# Altium integrated library Transistor.IntLib: 3457 symbols (part 56 of 78)
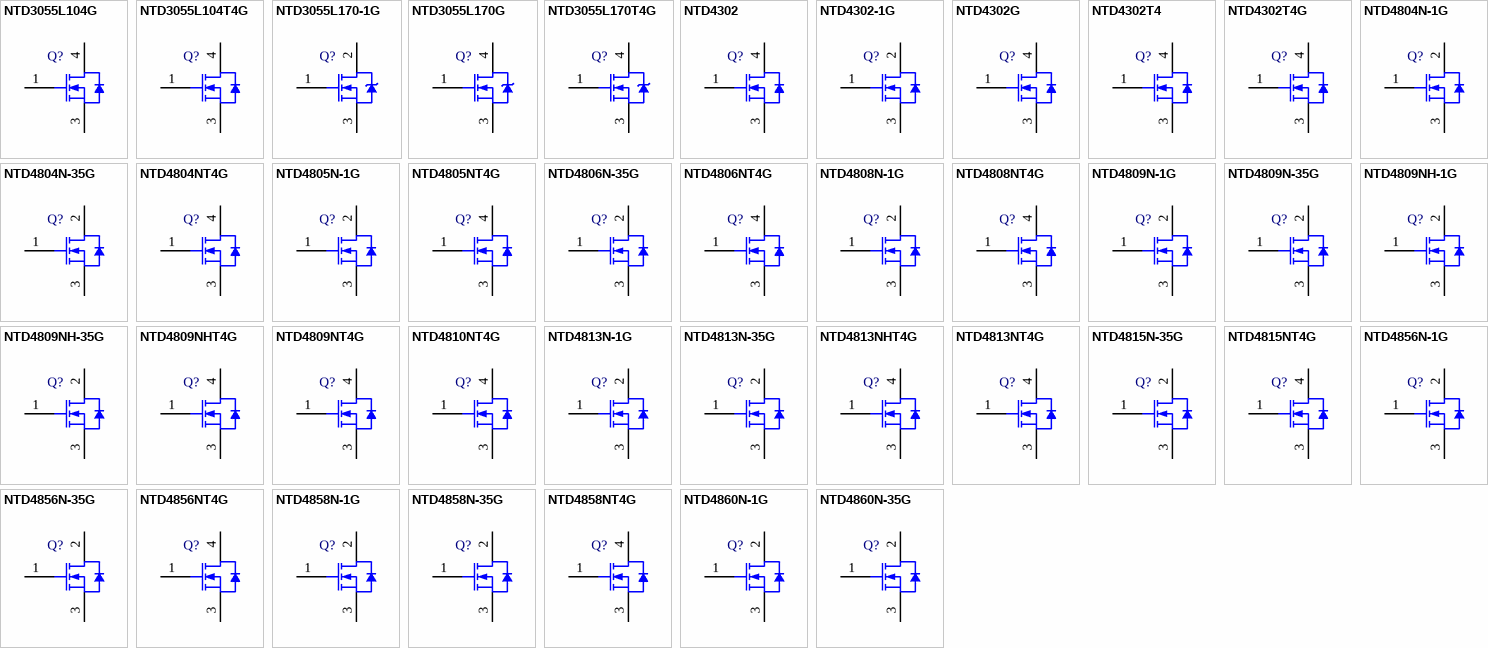
[diagram p149: symbols NTD3055L104G to NTD4860N-35G]

## NTD4804N-35G
designator Q?
Power MOSFET, 30 V, 117 A, Single N-Channel, 3-Pin IPAK, Pb-Free, Tube; Manufacturer: On Semiconductor; PartNumber: NTD4804N-35G; Channel Polarity: N Channel; Ciss Typ (pF): 4490; Coss Typ (pF): 952; Crss Typ (pF): 556; ID Max (A): 117; Qrr Typ (nC): 30; VGS Max (V): 20; VGS(th) Max (V): 2.5; DatasheetVersion: Rev. 8; PackageVersion: Rev. B, 04/2013; PackageReference: IPAK-3-369AD; PackageDescription: 3-Pin Flange Mount, Vertical Straight Lead, Body 6.54 x 2.285 mm, Pitch 2.28 mm; Configuration: Single; Package Type: DPAK-3; Packing: Tube; RoHS: Pb-Free; V(BR)DSS Min (V): 30; Mounting Technology: Through Hole; ComponentLink1Description: Manufacturer URL; ComponentLink1URL: http://www.onsemi.com/; ComponentLink2Description: Datasheet; ComponentLink2URL: http://www.onsemi.cn/pub_link/Collateral/NTD4804N-D.PDF; ComponentLink3Description: Package Specification; ComponentLink3URL: http://www.onsemi.cn/pub_link/Collateral/369AD.PDF
footprint ONSC-IPAK-3-369AD (FM, 3-Leads, Body 6.75x2.4mm, Pitch 2.28mm)
pins: 1 G, 2 D, 3 S

## NTD4804NT4G
designator Q?
Power MOSFET, 30 V, 117 A, Single N-Channel, 3-Pin DPAK, Pb-Free, Tape and Reel; Manufacturer: On Semiconductor; PartNumber: NTD4804NT4G; Channel Polarity: N Channel; Ciss Typ (pF): 4490; Coss Typ (pF): 952; Crss Typ (pF): 556; ID Max (A): 117; Qrr Typ (nC): 30; VGS Max (V): 20; VGS(th) Max (V): 2.5; DatasheetVersion: Rev. 8; PackageVersion: Rev. B, 06/2010; PackageReference: DPAK-3-369AA-01; PackageDescription: 3-Pin Flange Mount, Body 6.54 x 6.095 mm, Pitch 2.29 mm; Configuration: Single; Package Type: DPAK-3; Packing: Tape and Reel; RoHS: Pb-Free; V(BR)DSS Min (V): 30; Mounting Technology: Surface Mount; ComponentLink1Description: Manufacturer URL; ComponentLink1URL: http://www.onsemi.com/; ComponentLink2Description: Datasheet; ComponentLink2URL: http://www.onsemi.cn/pub_link/Collateral/NTD4804N-D.PDF; ComponentLink3Description: Package Specification; ComponentLink3URL: http://www.onsemi.cn/pub_link/Collateral/369AA.PDF
footprint ONSC-DPAK-3-369AA-01_V (DPAK, 3-Leads, Body 6.54x6.095mm, Pitch 2.29mm)
pins: 1 G, 3 S, 4 D

## NTD4805N-1G
designator Q?
Power MOSFET, 30 V, 88 A, Single N-Channel, 3-Pin IPAK, Pb-Free, Tube; Manufacturer: On Semiconductor; PartNumber: NTD4805N-1G; Channel Polarity: N Channel; Ciss Typ (pF): 2865; Coss Typ (pF): 610; Crss Typ (pF): 338; ID Max (A): 88; Qrr Typ (nC): 18; V(BR)DSS Min (V): 30; VGS Max (V): 20; VGS(th) Max (V): 2.5; DatasheetVersion: Rev. 7; PackageVersion: Rev. C, 12/2010; PackageReference: IPAK-3-369D-01; PackageDescription: 3-Pin Flange Mount, Vertical Straight Lead, Body 6.54 x 2.285 mm, Pitch 2.29 mm; Configuration: Single; Package Type: DPAK-3, IPAK-4; Packing: Tube; RoHS: Pb-Free; Mounting Technology: Through Hole; Code_JEDEC: TO-251; ComponentLink1Description: Manufacturer URL; ComponentLink1URL: http://www.onsemi.com/; ComponentLink2Description: Datasheet; ComponentLink2URL: http://www.onsemi.cn/pub_link/Collateral/NTD4805N-D.PDF; ComponentLink3Description: Package Specification; ComponentLink3URL: http://www.onsemi.cn/pub_link/Collateral/369D.PDF
footprint ONSC-IPAK-3-369D-01 (FM, 3-Leads, Body 6.75x2.4mm, Pitch 2.29mm)
pins: 1 G, 2 D, 3 S

## NTD4805NT4G
designator Q?
Power MOSFET, 30 V, 88 A, Single N-Channel, 3-Pin DPAK, Pb-Free, Tape and Reel; Manufacturer: On Semiconductor; PartNumber: NTD4805NT4G; Channel Polarity: N Channel; Ciss Typ (pF): 2865; Coss Typ (pF): 610; Crss Typ (pF): 338; ID Max (A): 88; Qrr Typ (nC): 18; V(BR)DSS Min (V): 30; VGS Max (V): 20; VGS(th) Max (V): 2.5; DatasheetVersion: Rev. 7; PackageVersion: Rev. B, 06/2010; PackageReference: DPAK-3-369AA-01; PackageDescription: 3-Pin Flange Mount, Body 6.54 x 6.095 mm, Pitch 2.29 mm; Configuration: Single; Package Type: DPAK-3, IPAK-4; Packing: Tape and Reel; RoHS: Pb-Free; Mounting Technology: Surface Mount; ComponentLink1Description: Manufacturer URL; ComponentLink1URL: http://www.onsemi.com/; ComponentLink2Description: Datasheet; ComponentLink2URL: http://www.onsemi.cn/pub_link/Collateral/NTD4805N-D.PDF; ComponentLink3Description: Package Specification; ComponentLink3URL: http://www.onsemi.cn/pub_link/Collateral/369AA.PDF
footprint ONSC-DPAK-3-369AA-01_V (DPAK, 3-Leads, Body 6.54x6.095mm, Pitch 2.29mm)
pins: 1 G, 3 S, 4 D

## NTD4806N-35G
designator Q?
Power MOSFET, 30 V, 76 A, Single N-Channel, 3-Pin IPAK, Pb-Free, Tube; Manufacturer: On Semiconductor; PartNumber: NTD4806N-35G; Channel Polarity: N Channel; Ciss Typ (pF): 2142; Coss Typ (pF): 480; Crss Typ (pF): 251; ID Max (A): 76; Qrr Typ (nC): 16; V(BR)DSS Min (V): 30; VGS Max (V): 20; VGS(th) Max (V): 2.5; DatasheetVersion: Rev. 9; PackageVersion: Rev. B, 04/2013; PackageReference: IPAK-3-369AD; PackageDescription: 3-Pin Flange Mount, Vertical Straight Lead, Body 6.54 x 2.285 mm, Pitch 2.28 mm; Configuration: Single; Package Type: DPAK-3, IPAK-3; Packing: Tube; RoHS: Pb-Free; Mounting Technology: Through Hole; ComponentLink1Description: Manufacturer URL; ComponentLink1URL: http://www.onsemi.com/; ComponentLink2Description: Datasheet; ComponentLink2URL: http://www.onsemi.cn/pub_link/Collateral/NTD4806N-D.PDF; ComponentLink3Description: Package Specification; ComponentLink3URL: http://www.onsemi.cn/pub_link/Collateral/369AD.PDF
footprint ONSC-IPAK-3-369AD (FM, 3-Leads, Body 6.75x2.4mm, Pitch 2.28mm)
pins: 1 G, 2 D, 3 S

## NTD4806NT4G
designator Q?
Power MOSFET, 30 V, 76 A, Single N-Channel, 3-Pin DPAK, Pb-Free, Tape and Reel; Manufacturer: On Semiconductor; PartNumber: NTD4806NT4G; Channel Polarity: N Channel; Ciss Typ (pF): 2142; Coss Typ (pF): 480; Crss Typ (pF): 251; ID Max (A): 76; Qrr Typ (nC): 16; V(BR)DSS Min (V): 30; VGS Max (V): 20; VGS(th) Max (V): 2.5; DatasheetVersion: Rev. 9; PackageVersion: Rev. B, 06/2010; PackageReference: DPAK-3-369AA-01; PackageDescription: 3-Pin Flange Mount, Body 6.54 x 6.095 mm, Pitch 2.29 mm; Configuration: Single; Package Type: DPAK-3, IPAK-3; Packing: Tape and Reel; RoHS: Pb-Free; Mounting Technology: Surface Mount; ComponentLink1Description: Manufacturer URL; ComponentLink1URL: http://www.onsemi.com/; ComponentLink2Description: Datasheet; ComponentLink2URL: http://www.onsemi.cn/pub_link/Collateral/NTD4806N-D.PDF; ComponentLink3Description: Package Specification; ComponentLink3URL: http://www.onsemi.cn/pub_link/Collateral/369AA.PDF
footprint ONSC-DPAK-3-369AA-01_V (DPAK, 3-Leads, Body 6.54x6.095mm, Pitch 2.29mm)
pins: 1 G, 3 S, 4 D

## NTD4808N-1G
designator Q?
Power MOSFET, 30 V, 63 A, Single N-Channel, 3-Pin IPAK, Pb-Free, Tube; Manufacturer: On Semiconductor; PartNumber: NTD4808N-1G; Channel Polarity: N Channel; Ciss Typ (pF): 1538; Coss Typ (pF): 334; Crss Typ (pF): 180; ID Max (A): 63; Qrr Typ (nC): 9.7; V(BR)DSS Min (V): 30; VGS Max (V): 20; VGS(th) Max (V): 2.5; DatasheetVersion: Rev. 7; PackageVersion: Rev. C, 12/2010; PackageReference: IPAK-3-369D-01; PackageDescription: 3-Pin Flange Mount, Vertical Straight Lead, Body 6.54 x 2.285 mm, Pitch 2.29 mm; Configuration: Single; Package Type: DPAK-3, IPAK-4; Packing: Tube; RoHS: Pb-Free; Mounting Technology: Through Hole; Code_JEDEC: TO-251; ComponentLink1Description: Manufacturer URL; ComponentLink1URL: http://www.onsemi.com/; ComponentLink2Description: Datasheet; ComponentLink2URL: http://www.onsemi.cn/pub_link/Collateral/NTD4808N-D.PDF; ComponentLink3Description: Package Specification; ComponentLink3URL: http://www.onsemi.com/pub_link/Collateral/369D.PDF
footprint ONSC-IPAK-3-369D-01 (FM, 3-Leads, Body 6.75x2.4mm, Pitch 2.29mm)
pins: 1 G, 2 D, 3 S

## NTD4808NT4G
designator Q?
Power MOSFET, 30 V, 63 A, Single N-Channel, 3-Pin DPAK, Pb-Free, Tape and Reel; Manufacturer: On Semiconductor; PartNumber: NTD4808NT4G; Channel Polarity: N Channel; Ciss Typ (pF): 1538; Coss Typ (pF): 334; Crss Typ (pF): 180; ID Max (A): 63; Qrr Typ (nC): 9.7; V(BR)DSS Min (V): 30; VGS Max (V): 20; VGS(th) Max (V): 2.5; DatasheetVersion: Rev. 7; PackageVersion: Rev. B, 06/2010; PackageReference: DPAK-3-369AA-01; PackageDescription: 3-Pin Flange Mount, Body 6.54 x 6.095 mm, Pitch 2.29 mm; Configuration: Single; Package Type: DPAK-3, IPAK-4; Packing: Tape and Reel; RoHS: Pb-Free; Mounting Technology: Surface Mount; ComponentLink1Description: Manufacturer URL; ComponentLink1URL: http://www.onsemi.com/; ComponentLink2Description: Datasheet; ComponentLink2URL: http://www.onsemi.cn/pub_link/Collateral/NTD4808N-D.PDF; ComponentLink3Description: Package Specification; ComponentLink3URL: http://www.onsemi.cn/pub_link/Collateral/369AA.PDF
footprint ONSC-DPAK-3-369AA-01_V (DPAK, 3-Leads, Body 6.54x6.095mm, Pitch 2.29mm)
pins: 1 G, 3 S, 4 D

## NTD4809N-1G
designator Q?
Power MOSFET, 30 V, 58 A, Single N-Channel, 3-Pin IPAK, Pb-Free, Tube; Manufacturer: On Semiconductor; PartNumber: NTD4809N-1G; Channel Polarity: N Channel; Ciss Typ (pF): 1456; Coss Typ (pF): 315; Crss Typ (pF): 200; ID Max (A): 58; Qrr Typ (nC): 9.2; V(BR)DSS Min (V): 30; VGS Max (V): 20; VGS(th) Max (V): 2.5; DatasheetVersion: Rev. 13; PackageVersion: Rev. C, 12/2010; PackageReference: IPAK-3-369D-01; PackageDescription: 3-Pin Flange Mount, Vertical Straight Lead, Body 6.54 x 2.285 mm, Pitch 2.29 mm; Configuration: Single; Package Type: DPAK-3, IPAK-3; Packing: Tube; RoHS: Pb-Free; Mounting Technology: Through Hole; Code_JEDEC: TO-251; ComponentLink1Description: Manufacturer URL; ComponentLink1URL: http://www.onsemi.com/; ComponentLink2Description: Datasheet; ComponentLink2URL: http://www.onsemi.cn/pub_link/Collateral/NTD4809N-D.PDF; ComponentLink3Description: Package Specification; ComponentLink3URL: http://www.onsemi.cn/pub_link/Collateral/369D.PDF
footprint ONSC-IPAK-3-369D-01 (FM, 3-Leads, Body 6.75x2.4mm, Pitch 2.29mm)
pins: 1 G, 2 D, 3 S

## NTD4809N-35G
designator Q?
Power MOSFET, 30 V, 58 A, Single N-Channel, 3-Pin IPAK, Pb-Free, Tube; Manufacturer: On Semiconductor; PartNumber: NTD4809N-35G; Channel Polarity: N Channel; Ciss Typ (pF): 1456; Coss Typ (pF): 315; Crss Typ (pF): 200; ID Max (A): 58; Qrr Typ (nC): 9.2; V(BR)DSS Min (V): 30; VGS Max (V): 20; VGS(th) Max (V): 2.5; DatasheetVersion: Rev. 13; PackageVersion: Rev. B, 04/2013; PackageReference: IPAK-3-369AD; PackageDescription: 3-Pin Flange Mount, Vertical Straight Lead, Body 6.54 x 2.285 mm, Pitch 2.28 mm; Configuration: Single; Package Type: DPAK-3, IPAK-3; Packing: Tube; RoHS: Pb-Free; Mounting Technology: Through Hole; ComponentLink1Description: Manufacturer URL; ComponentLink1URL: http://www.onsemi.com/; ComponentLink2Description: Datasheet; ComponentLink2URL: http://www.onsemi.cn/pub_link/Collateral/NTD4809N-D.PDF; ComponentLink3Description: Package Specification; ComponentLink3URL: http://www.onsemi.cn/pub_link/Collateral/369AD.PDF
footprint ONSC-IPAK-3-369AD (FM, 3-Leads, Body 6.75x2.4mm, Pitch 2.28mm)
pins: 1 G, 2 D, 3 S

## NTD4809NH-1G
designator Q?
Power MOSFET, 30 V, 58 A, Single N-Channel, 3-Pin IPAK, Pb-Free, Tube; Manufacturer: On Semiconductor; PartNumber: NTD4809NH-1G; Channel Polarity: N Channel; Ciss Typ (pF): 1596; Coss Typ (pF): 331; Crss Typ (pF): 190; ID Max (A): 58; Qrr Typ (nC): 7.5; V(BR)DSS Min (V): 30; VGS Max (V): 20; VGS(th) Max (V): 2.5; DatasheetVersion: Rev. 9; PackageVersion: Rev. C, 12/2010; PackageReference: IPAK-3-369D-01; PackageDescription: 3-Pin Flange Mount, Vertical Straight Lead, Body 6.54 x 2.285 mm, Pitch 2.29 mm; Configuration: Single; Package Type: DPAK-3; Packing: Tube; RoHS: Pb-Free; Mounting Technology: Through Hole; Code_JEDEC: TO-251; ComponentLink1Description: Manufacturer URL; ComponentLink1URL: http://www.onsemi.com/; ComponentLink2Description: Datasheet; ComponentLink2URL: http://www.onsemi.cn/pub_link/Collateral/NTD4809NH-D.PDF; ComponentLink3Description: Package Specification; ComponentLink3URL: http://www.onsemi.cn/pub_link/Collateral/369D.PDF
footprint ONSC-IPAK-3-369D-01 (FM, 3-Leads, Body 6.75x2.4mm, Pitch 2.29mm)
pins: 1 G, 2 D, 3 S

## NTD4809NH-35G
designator Q?
Power MOSFET, 30 V, 58 A, Single N-Channel, 3-Pin IPAK, Pb-Free, Tube; Manufacturer: On Semiconductor; PartNumber: NTD4809NH-35G; Channel Polarity: N Channel; Ciss Typ (pF): 1596; Coss Typ (pF): 331; Crss Typ (pF): 190; ID Max (A): 58; Qrr Typ (nC): 7.5; V(BR)DSS Min (V): 30; VGS Max (V): 20; VGS(th) Max (V): 2.5; DatasheetVersion: Rev. 9; PackageVersion: Rev. B, 04/2013; PackageReference: IPAK-3-369AD; PackageDescription: 3-Pin Flange Mount, Vertical Straight Lead, Body 6.54 x 2.285 mm, Pitch 2.28 mm; Configuration: Single; Package Type: DPAK-3; Packing: Tube; RoHS: Pb-Free; Mounting Technology: Through Hole; ComponentLink1Description: Manufacturer URL; ComponentLink1URL: http://www.onsemi.com/; ComponentLink2Description: Datasheet; ComponentLink2URL: http://www.onsemi.cn/pub_link/Collateral/NTD4809NH-D.PDF; ComponentLink3Description: Package Specification; ComponentLink3URL: http://www.onsemi.cn/pub_link/Collateral/369AD.PDF
footprint ONSC-IPAK-3-369AD (FM, 3-Leads, Body 6.75x2.4mm, Pitch 2.28mm)
pins: 1 G, 2 D, 3 S

## NTD4809NHT4G
designator Q?
Power MOSFET, 30 V, 58 A, Single N-Channel, 3-Pin DPAK, Pb-Free, Tape and Reel; Manufacturer: On Semiconductor; PartNumber: NTD4809NHT4G; Channel Polarity: N Channel; Ciss Typ (pF): 1596; Coss Typ (pF): 331; Crss Typ (pF): 190; ID Max (A): 58; Qrr Typ (nC): 7.5; V(BR)DSS Min (V): 30; VGS Max (V): 20; VGS(th) Max (V): 2.5; DatasheetVersion: Rev. 9; PackageVersion: Rev. B, 06/2010; PackageReference: DPAK-3-369AA-01; PackageDescription: 3-Pin Flange Mount, Body 6.54 x 6.095 mm, Pitch 2.29 mm; Configuration: Single; Package Type: DPAK-3; Packing: Tape and Reel; RoHS: Pb-Free; Mounting Technology: Surface Mount; ComponentLink1Description: Manufacturer URL; ComponentLink1URL: http://www.onsemi.com/; ComponentLink2Description: Datasheet; ComponentLink2URL: http://www.onsemi.cn/pub_link/Collateral/NTD4809NH-D.PDF; ComponentLink3Description: Package Specification; ComponentLink3URL: http://www.onsemi.cn/pub_link/Collateral/369AA.PDF
footprint ONSC-DPAK-3-369AA-01_V (DPAK, 3-Leads, Body 6.54x6.095mm, Pitch 2.29mm)
pins: 1 G, 3 S, 4 D

## NTD4809NT4G
designator Q?
Power MOSFET, 30 V, 58 A, Single N-Channel, 3-Pin DPAK, Pb-Free, Tape and Reel; Manufacturer: On Semiconductor; PartNumber: NTD4809NT4G; Channel Polarity: N Channel; Ciss Typ (pF): 1456; Coss Typ (pF): 315; Crss Typ (pF): 200; ID Max (A): 58; Qrr Typ (nC): 9.2; V(BR)DSS Min (V): 30; VGS Max (V): 20; VGS(th) Max (V): 2.5; DatasheetVersion: Rev. 13; PackageVersion: Rev. B, 06/2010; PackageReference: DPAK-3-369AA-01; PackageDescription: 3-Pin Flange Mount, Body 6.54 x 6.095 mm, Pitch 2.29 mm; Configuration: Single; Package Type: DPAK-3, IPAK-3; Packing: Tape and Reel; RoHS: Pb-Free; Mounting Technology: Surface Mount; ComponentLink1Description: Manufacturer URL; ComponentLink1URL: http://www.onsemi.com/; ComponentLink2Description: Datasheet; ComponentLink2URL: http://www.onsemi.cn/pub_link/Collateral/NTD4809N-D.PDF; ComponentLink3Description: Package Specification; ComponentLink3URL: http://www.onsemi.cn/pub_link/Collateral/369AA.PDF
footprint ONSC-DPAK-3-369AA-01_V (DPAK, 3-Leads, Body 6.54x6.095mm, Pitch 2.29mm)
pins: 1 G, 3 S, 4 D

## NTD4810NT4G
designator Q?
Power MOSFET, 30 V, 54 A, Single N-Channel, 3-Pin DPAK, Pb-Free, Tape and Reel; Manufacturer: On Semiconductor; PartNumber: NTD4810NT4G; Channel Polarity: N Channel; Ciss Typ (pF): 1165; Coss Typ (pF): 284; Crss Typ (pF): 154; ID Max (A): 54; Qrr Typ (nC): 8.8; V(BR)DSS Min (V): 30; VGS Max (V): 20; VGS(th) Max (V): 2.5; DatasheetVersion: Rev. 10; PackageVersion: Rev. B, 06/2010; PackageReference: DPAK-3-369AA-01; PackageDescription: 3-Pin Flange Mount, Body 6.54 x 6.095 mm, Pitch 2.29 mm; Configuration: Single; Package Type: DPAK-3; Packing: Tape and Reel; RoHS: Pb-Free; Mounting Technology: Surface Mount; ComponentLink1Description: Manufacturer URL; ComponentLink1URL: http://www.onsemi.com/; ComponentLink2Description: Datasheet; ComponentLink2URL: http://www.onsemi.cn/pub_link/Collateral/NTD4810N-D.PDF; ComponentLink3Description: Package Specification; ComponentLink3URL: http://www.onsemi.cn/pub_link/Collateral/369AA.PDF
footprint ONSC-DPAK-3-369AA-01_V (DPAK, 3-Leads, Body 6.54x6.095mm, Pitch 2.29mm)
pins: 1 G, 3 S, 4 D

## NTD4813N-1G
designator Q?
Power MOSFET, 30 V, 40 A, Single N-Channel, 3-Pin IPAK, Pb-Free, Tube; Manufacturer: On Semiconductor; PartNumber: NTD4813N-1G; Channel Polarity: N Channel; Ciss Typ (pF): 860; Coss Typ (pF): 201; Crss Typ (pF): 115; ID Max (A): 40; Qrr Typ (nC): 7; V(BR)DSS Min (V): 30; VGS Max (V): 20; VGS(th) Max (V): 2.5; DatasheetVersion: Rev. 6; PackageVersion: Rev. C, 12/2010; PackageReference: IPAK-3-369D-01; PackageDescription: 3-Pin Flange Mount, Vertical Straight Lead, Body 6.54 x 2.285 mm, Pitch 2.29 mm; Configuration: Single; Package Type: IPAK-3; Packing: Tube; RoHS: Pb-Free; Mounting Technology: Through Hole; Code_JEDEC: TO-251; ComponentLink1Description: Manufacturer URL; ComponentLink1URL: http://www.onsemi.com/; ComponentLink2Description: Datasheet; ComponentLink2URL: http://www.onsemi.cn/pub_link/Collateral/NTD4813N-D.PDF; ComponentLink3Description: Package Specification; ComponentLink3URL: http://www.onsemi.cn/pub_link/Collateral/369D.PDF
footprint ONSC-IPAK-3-369D-01 (FM, 3-Leads, Body 6.75x2.4mm, Pitch 2.29mm)
pins: 1 G, 2 D, 3 S

## NTD4813N-35G
designator Q?
Power MOSFET, 30 V, 40 A, Single N-Channel, 3-Pin IPAK, Pb-Free, Tube; Manufacturer: On Semiconductor; PartNumber: NTD4813N-35G; Channel Polarity: N Channel; Ciss Typ (pF): 860; Coss Typ (pF): 201; Crss Typ (pF): 115; ID Max (A): 40; Qrr Typ (nC): 7; V(BR)DSS Min (V): 30; VGS Max (V): 20; VGS(th) Max (V): 2.5; DatasheetVersion: Rev. 6; PackageVersion: Rev. O, 02/2005; PackageReference: IPAK-3-369AC-01; PackageDescription: 3-Pin Flange Mount, Vertical Straight Lead, Body 6.54 x 2.285 mm, Pitch 2.29 mm; Configuration: Single; Package Type: IPAK-3; Packing: Tube; RoHS: Pb-Free; Mounting Technology: Through Hole; ComponentLink1Description: Manufacturer URL; ComponentLink1URL: http://www.onsemi.com/; ComponentLink2Description: Datasheet; ComponentLink2URL: http://www.onsemi.cn/pub_link/Collateral/NTD4813N-D.PDF; ComponentLink3Description: Package Specification; ComponentLink3URL: http://www.onsemi.cn/pub_link/Collateral/369AC.PDF
footprint ONSC-IPAK-3-369AC-01 (FM, 3-Leads, Body 6.75x2.4mm, Pitch 2.29mm)
pins: 1 G, 2 D, 3 S

## NTD4813NHT4G
designator Q?
Power MOSFET, 30 V, 40 A, Single N-Channel, 3-Pin DPAK, Pb-Free, Tape and Reel; Manufacturer: On Semiconductor; PartNumber: NTD4813NHT4G; Channel Polarity: N Channel; Ciss Typ (pF): 940; Coss Typ (pF): 201; Crss Typ (pF): 115; ID Max (A): 40; Qrr Typ (nC): 7; V(BR)DSS Min (V): 30; VGS Max (V): 20; VGS(th) Max (V): 2.5; DatasheetVersion: Rev. 3; PackageVersion: Rev. B, 06/2010; PackageReference: DPAK-3-369AA-01; PackageDescription: 3-Pin Flange Mount, Body 6.54 x 6.095 mm, Pitch 2.29 mm; Configuration: Single; Package Type: DPAK-3; Packing: Tape and Reel; RoHS: Pb-Free; Mounting Technology: Surface Mount; ComponentLink1Description: Manufacturer URL; ComponentLink1URL: http://www.onsemi.com/; ComponentLink2Description: Datasheet; ComponentLink2URL: http://www.onsemi.cn/pub_link/Collateral/NTD4813NH-D.PDF; ComponentLink3Description: Package Specification; ComponentLink3URL: http://www.onsemi.cn/pub_link/Collateral/369AA.PDF
footprint ONSC-DPAK-3-369AA-01_V (DPAK, 3-Leads, Body 6.54x6.095mm, Pitch 2.29mm)
pins: 1 G, 3 S, 4 D

## NTD4813NT4G
designator Q?
Power MOSFET, 30 V, 40 A, Single N-Channel, 3-Pin DPAK, Pb-Free, Tape and Reel; Manufacturer: On Semiconductor; PartNumber: NTD4813NT4G; Channel Polarity: N Channel; Ciss Typ (pF): 860; Coss Typ (pF): 201; Crss Typ (pF): 115; ID Max (A): 40; Qrr Typ (nC): 7; V(BR)DSS Min (V): 30; VGS Max (V): 20; VGS(th) Max (V): 2.5; DatasheetVersion: Rev. 6; PackageVersion: Rev. B, 06/2010; PackageReference: DPAK-3-369AA-01; PackageDescription: 3-Pin Flange Mount, Body 6.54 x 6.095 mm, Pitch 2.29 mm; Configuration: Single; Package Type: IPAK-3; Packing: Tape and Reel; RoHS: Pb-Free; Mounting Technology: Surface Mount; ComponentLink1Description: Manufacturer URL; ComponentLink1URL: http://www.onsemi.com/; ComponentLink2Description: Datasheet; ComponentLink2URL: http://www.onsemi.cn/pub_link/Collateral/NTD4813N-D.PDF; ComponentLink3Description: Package Specification; ComponentLink3URL: http://www.onsemi.cn/pub_link/Collateral/369AA.PDF
footprint ONSC-DPAK-3-369AA-01_V (DPAK, 3-Leads, Body 6.54x6.095mm, Pitch 2.29mm)
pins: 1 G, 3 S, 4 D

## NTD4815N-35G
designator Q?
Power MOSFET, 30 V, 35 A, Single N-Channel, 3-Pin IPAK, Pb-Free, Tube; Manufacturer: On Semiconductor; PartNumber: NTD4815N-35G; Channel Polarity: N Channel; Ciss Typ (pF): 770; Coss Typ (pF): 181; Crss Typ (pF): 108; ID Max (A): 35; Qrr Typ (nC): 5.5; V(BR)DSS Min (V): 30; VGS Max (V): 20; VGS(th) Max (V): 2.5; DatasheetVersion: Rev. 7; PackageVersion: Rev. O, 02/2005; PackageReference: IPAK-3-369AC-01; PackageDescription: 3-Pin Flange Mount, Vertical Straight Lead, Body 6.54 x 2.285 mm, Pitch 2.29 mm; Configuration: Single; Package Type: DPAK-3, IPAK-3; Packing: Tube; RoHS: Pb-Free; Mounting Technology: Through Hole; ComponentLink1Description: Manufacturer URL; ComponentLink1URL: http://www.onsemi.com/; ComponentLink2Description: Datasheet; ComponentLink2URL: http://www.onsemi.cn/pub_link/Collateral/NTD4815N-D.PDF; ComponentLink3Description: Package Specification; ComponentLink3URL: http://www.onsemi.cn/pub_link/Collateral/369AC.PDF
footprint ONSC-IPAK-3-369AC-01 (FM, 3-Leads, Body 6.75x2.4mm, Pitch 2.29mm)
pins: 1 G, 2 D, 3 S

## NTD4815NT4G
designator Q?
Power MOSFET, 30 V, 35 A, Single N-Channel, 3-Pin DPAK, Pb-Free, Tape and Reel; Manufacturer: On Semiconductor; PartNumber: NTD4815NT4G; Channel Polarity: N Channel; Ciss Typ (pF): 770; Coss Typ (pF): 181; Crss Typ (pF): 108; ID Max (A): 35; Qrr Typ (nC): 5.5; V(BR)DSS Min (V): 30; VGS Max (V): 20; VGS(th) Max (V): 2.5; DatasheetVersion: Rev. 7; PackageVersion: Rev. B, 06/2010; PackageReference: DPAK-3-369AA-01; PackageDescription: 3-Pin Flange Mount, Body 6.54 x 6.095 mm, Pitch 2.29 mm; Configuration: Single; Package Type: DPAK-3, IPAK-3; Packing: Tape and Reel; RoHS: Pb-Free; Mounting Technology: Surface Mount; ComponentLink1Description: Manufacturer URL; ComponentLink1URL: http://www.onsemi.com/; ComponentLink2Description: Datasheet; ComponentLink2URL: http://www.onsemi.cn/pub_link/Collateral/NTD4815N-D.PDF; ComponentLink3Description: Package Specification; ComponentLink3URL: http://www.onsemi.cn/pub_link/Collateral/369AA.PDF
footprint ONSC-DPAK-3-369AA-01_V (DPAK, 3-Leads, Body 6.54x6.095mm, Pitch 2.29mm)
pins: 1 G, 3 S, 4 D

## NTD4856N-1G
designator Q?
Power MOSFET, 25 V, 89 A, Single N-Channel, 3-Pin IPAK, Pb-Free, Tube; Manufacturer: On Semiconductor; PartNumber: NTD4856N-1G; Channel Polarity: N Channel; Ciss Typ (pF): 2241; Coss Typ (pF): 567; Crss Typ (pF): 279; ID Max (A): 89; Qrr Typ (nC): 8; V(BR)DSS Min (V): 25; VGS Max (V): 20; VGS(th) Max (V): 2.5; DatasheetVersion: Rev. 2; PackageVersion: Rev. C, 12/2010; PackageReference: IPAK-3-369D-01; PackageDescription: 3-Pin Flange Mount, Vertical Straight Lead, Body 6.54 x 2.285 mm, Pitch 2.29 mm; Configuration: Single; Package Type: DPAK-3; Packing: Tube; RoHS: Pb-Free; Mounting Technology: Through Hole; Code_JEDEC: TO-251; ComponentLink1Description: Manufacturer URL; ComponentLink1URL: http://www.onsemi.com/; ComponentLink2Description: Datasheet; ComponentLink2URL: http://www.onsemi.cn/pub_link/Collateral/NTD4856N-D.PDF; ComponentLink3Description: Package Specification; ComponentLink3URL: http://www.onsemi.cn/pub_link/Collateral/369D.PDF
footprint ONSC-IPAK-3-369D-01 (FM, 3-Leads, Body 6.75x2.4mm, Pitch 2.29mm)
pins: 1 G, 2 D, 3 S

## NTD4856N-35G
designator Q?
Power MOSFET, 25 V, 89 A, Single N-Channel, 3-Pin IPAK, Pb-Free, Tube; Manufacturer: On Semiconductor; PartNumber: NTD4856N-35G; Channel Polarity: N Channel; Ciss Typ (pF): 2241; Coss Typ (pF): 567; Crss Typ (pF): 279; ID Max (A): 89; Qrr Typ (nC): 8; V(BR)DSS Min (V): 25; VGS Max (V): 20; VGS(th) Max (V): 2.5; DatasheetVersion: Rev. 2; PackageVersion: Rev. B, 04/2013; PackageReference: IPAK-3-369AD; PackageDescription: 3-Pin Flange Mount, Vertical Straight Lead, Body 6.54 x 2.285 mm, Pitch 2.28 mm; Configuration: Single; Package Type: DPAK-3; Packing: Tube; RoHS: Pb-Free; Mounting Technology: Through Hole; ComponentLink1Description: Manufacturer URL; ComponentLink1URL: http://www.onsemi.com/; ComponentLink2Description: Datasheet; ComponentLink2URL: http://www.onsemi.cn/pub_link/Collateral/NTD4856N-D.PDF; ComponentLink3Description: Package Specification; ComponentLink3URL: http://www.onsemi.cn/pub_link/Collateral/369AD.PDF
footprint ONSC-IPAK-3-369AD (FM, 3-Leads, Body 6.75x2.4mm, Pitch 2.28mm)
pins: 1 G, 2 D, 3 S

## NTD4856NT4G
designator Q?
Power MOSFET, 25 V, 89 A, Single N-Channel, 3-Pin DPAK, Pb-Free, Tape and Reel; Manufacturer: On Semiconductor; PartNumber: NTD4856NT4G; Channel Polarity: N Channel; Ciss Typ (pF): 2241; Coss Typ (pF): 567; Crss Typ (pF): 279; ID Max (A): 89; Qrr Typ (nC): 8; V(BR)DSS Min (V): 25; VGS Max (V): 20; VGS(th) Max (V): 2.5; DatasheetVersion: Rev. 2; PackageVersion: Rev. B, 06/2010; PackageReference: DPAK-3-369AA-01; PackageDescription: 3-Pin Flange Mount, Body 6.54 x 6.095 mm, Pitch 2.29 mm; Configuration: Single; Package Type: DPAK-3; Packing: Tape and Reel; RoHS: Pb-Free; Mounting Technology: Surface Mount; ComponentLink1Description: Manufacturer URL; ComponentLink1URL: http://www.onsemi.com/; ComponentLink2Description: Datasheet; ComponentLink2URL: http://www.onsemi.cn/pub_link/Collateral/NTD4856N-D.PDF; ComponentLink3Description: Package Specification; ComponentLink3URL: http://www.onsemi.cn/pub_link/Collateral/369AA.PDF
footprint ONSC-DPAK-3-369AA-01_V (DPAK, 3-Leads, Body 6.54x6.095mm, Pitch 2.29mm)
pins: 1 G, 3 S, 4 D

## NTD4858N-1G
designator Q?
Power MOSFET, 25 V, 73 A, Single N-Channel, 3-Pin IPAK, Pb-Free, Tube; Manufacturer: On Semiconductor; PartNumber: NTD4858N-1G; Channel Polarity: N Channel; Ciss Typ (pF): 1563; Coss Typ (pF): 405; Crss Typ (pF): 200; ID Max (A): 73; Qrr Typ (nC): 3; V(BR)DSS Min (V): 25; VGS Max (V): 20; VGS(th) Max (V): 2.5; DatasheetVersion: Rev. 2; PackageVersion: Rev. C, 12/2010; PackageReference: IPAK-3-369D-01; PackageDescription: 3-Pin Flange Mount, Vertical Straight Lead, Body 6.54 x 2.285 mm, Pitch 2.29 mm; Configuration: Single; Package Type: DPAK-3, IPAK-3; Packing: Tube; RoHS: Pb-Free; Mounting Technology: Through Hole; Code_JEDEC: TO-251; ComponentLink1Description: Manufacturer URL; ComponentLink1URL: http://www.onsemi.com/; ComponentLink2Description: Datasheet; ComponentLink2URL: http://www.onsemi.cn/pub_link/Collateral/NTD4858N-D.PDF; ComponentLink3Description: Package Specification; ComponentLink3URL: http://www.onsemi.cn/pub_link/Collateral/369D.PDF
footprint ONSC-IPAK-3-369D-01 (FM, 3-Leads, Body 6.75x2.4mm, Pitch 2.29mm)
pins: 1 G, 2 D, 3 S

## NTD4858N-35G
designator Q?
Power MOSFET, 25 V, 73 A, Single N-Channel, 3-Pin IPAK, Pb-Free, Tube; Manufacturer: On Semiconductor; PartNumber: NTD4858N-35G; Channel Polarity: N Channel; Ciss Typ (pF): 1563; Coss Typ (pF): 405; Crss Typ (pF): 200; ID Max (A): 73; Qrr Typ (nC): 3; V(BR)DSS Min (V): 25; VGS Max (V): 20; VGS(th) Max (V): 2.5; DatasheetVersion: Rev. 2; PackageVersion: Rev. B, 04/2013; PackageReference: IPAK-3-369AD; PackageDescription: 3-Pin Flange Mount, Vertical Straight Lead, Body 6.54 x 2.285 mm, Pitch 2.28 mm; Configuration: Single; Package Type: DPAK-3, IPAK-3; Packing: Tube; RoHS: Pb-Free; Mounting Technology: Through Hole; ComponentLink1Description: Manufacturer URL; ComponentLink1URL: http://www.onsemi.com/; ComponentLink2Description: Datasheet; ComponentLink2URL: http://www.onsemi.cn/pub_link/Collateral/NTD4858N-D.PDF; ComponentLink3Description: Package Specification; ComponentLink3URL: http://www.onsemi.cn/pub_link/Collateral/369AD.PDF
footprint ONSC-IPAK-3-369AD (FM, 3-Leads, Body 6.75x2.4mm, Pitch 2.28mm)
pins: 1 G, 2 D, 3 S

## NTD4858NT4G
designator Q?
Power MOSFET, 25 V, 73 A, Single N-Channel, 3-Pin DPAK, Pb-Free, Tape and Reel; Manufacturer: On Semiconductor; PartNumber: NTD4858NT4G; Channel Polarity: N Channel; Ciss Typ (pF): 1563; Coss Typ (pF): 405; Crss Typ (pF): 200; ID Max (A): 73; Qrr Typ (nC): 3; V(BR)DSS Min (V): 25; VGS Max (V): 20; VGS(th) Max (V): 2.5; DatasheetVersion: Rev. 2; PackageVersion: Rev. B, 06/2010; PackageReference: DPAK-3-369AA-01; PackageDescription: 3-Pin Flange Mount, Body 6.54 x 6.095 mm, Pitch 2.29 mm; Configuration: Single; Package Type: DPAK-3, IPAK-3; Packing: Tape and Reel; RoHS: Pb-Free; Mounting Technology: Surface Mount; ComponentLink1Description: Manufacturer URL; ComponentLink1URL: http://www.onsemi.com/; ComponentLink2Description: Datasheet; ComponentLink2URL: http://www.onsemi.cn/pub_link/Collateral/NTD4858N-D.PDF; ComponentLink3Description: Package Specification; ComponentLink3URL: http://www.onsemi.cn/pub_link/Collateral/369AA.PDF
footprint ONSC-DPAK-3-369AA-01_V (DPAK, 3-Leads, Body 6.54x6.095mm, Pitch 2.29mm)
pins: 1 G, 3 S, 4 D

## NTD4860N-1G
designator Q?
Power MOSFET, 25 V, 65 A, Single N-Channel, 3-Pin IPAK, Pb-Free, Tube; Manufacturer: On Semiconductor; PartNumber: NTD4860N-1G; Channel Polarity: N Channel; Ciss Typ (pF): 1308; Coss Typ (pF): 342; Crss Typ (pF): 169; ID Max (A): 65; Qrr Typ (nC): 3.5; V(BR)DSS Min (V): 25; VGS Max (V): 20; VGS(th) Max (V): 2.5; DatasheetVersion: Rev. 1; PackageVersion: Rev. C, 12/2010; PackageReference: IPAK-3-369D-01; PackageDescription: 3-Pin Flange Mount, Vertical Straight Lead, Body 6.54 x 2.285 mm, Pitch 2.29 mm; Configuration: Single; Package Type: DPAK-3; Packing: Tube; RoHS: Pb-Free; Mounting Technology: Through Hole; Code_JEDEC: TO-251; ComponentLink1Description: Manufacturer URL; ComponentLink1URL: http://www.onsemi.com/; ComponentLink2Description: Datasheet; ComponentLink2URL: http://www.onsemi.cn/pub_link/Collateral/NTD4860N.PDF; ComponentLink3Description: Package Specification; ComponentLink3URL: http://www.onsemi.cn/pub_link/Collateral/369D.PDF
footprint ONSC-IPAK-3-369D-01 (FM, 3-Leads, Body 6.75x2.4mm, Pitch 2.29mm)
pins: 1 G, 2 D, 3 S

## NTD4860N-35G
designator Q?
Power MOSFET, 25 V, 65 A, Single N-Channel, 3-Pin IPAK, Pb-Free, Tube; Manufacturer: On Semiconductor; PartNumber: NTD4860N-35G; Channel Polarity: N Channel; Ciss Typ (pF): 1308; Coss Typ (pF): 342; Crss Typ (pF): 169; ID Max (A): 65; Qrr Typ (nC): 3.5; V(BR)DSS Min (V): 25; VGS Max (V): 20; VGS(th) Max (V): 2.5; DatasheetVersion: Rev. 1; PackageVersion: Rev. B, 04/2013; PackageReference: IPAK-3-369AD; PackageDescription: 3-Pin Flange Mount, Vertical Straight Lead, Body 6.54 x 2.285 mm, Pitch 2.28 mm; Configuration: Single; Package Type: DPAK-3; Packing: Tube; RoHS: Pb-Free; Mounting Technology: Through Hole; ComponentLink1Description: Manufacturer URL; ComponentLink1URL: http://www.onsemi.com/; ComponentLink2Description: Datasheet; ComponentLink2URL: http://www.onsemi.cn/pub_link/Collateral/NTD4860N.PDF; ComponentLink3Description: Package Specification; ComponentLink3URL: http://www.onsemi.cn/pub_link/Collateral/369AD.PDF
footprint ONSC-IPAK-3-369AD (FM, 3-Leads, Body 6.75x2.4mm, Pitch 2.28mm)
pins: 1 G, 2 D, 3 S

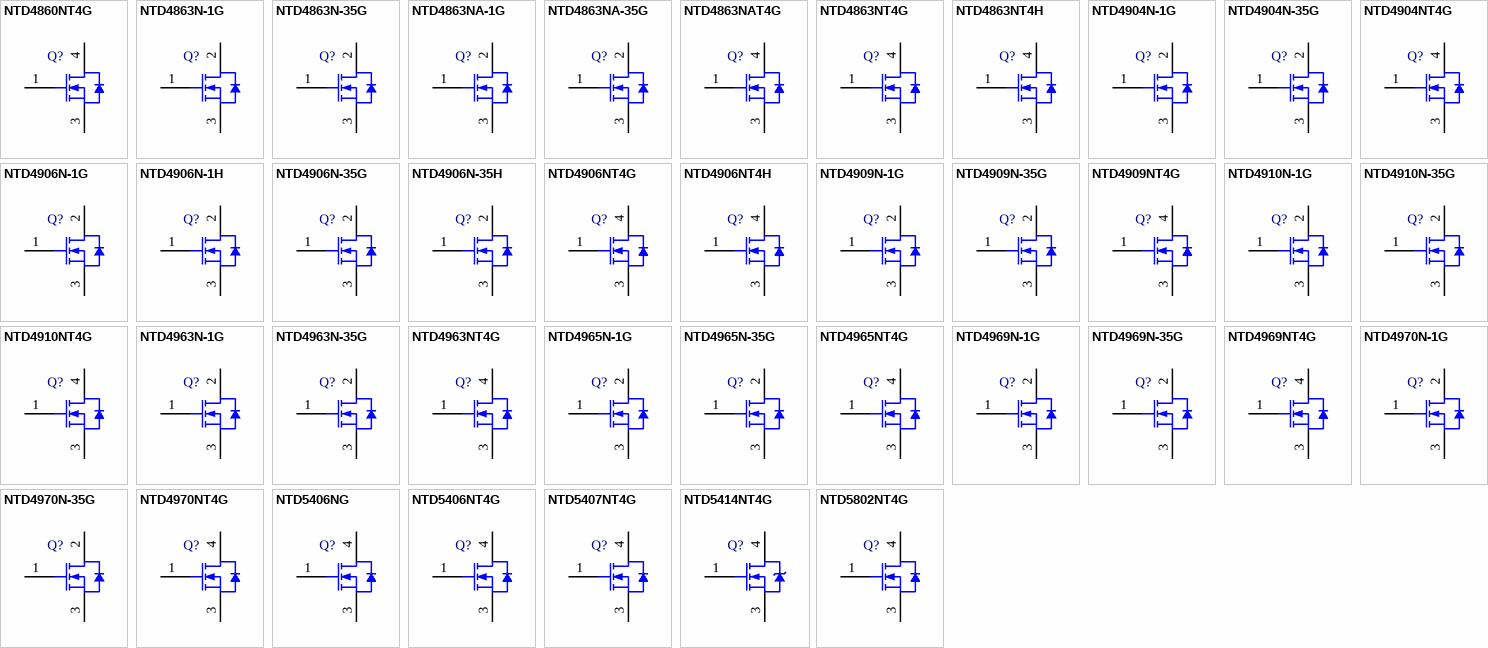
[diagram p67: symbols NTD4860NT4G to NTD5802NT4G]

## NTD4860NT4G
designator Q?
Power MOSFET, 25 V, 65 A, Single N-Channel, 3-Pin DPAK, Pb-Free, Tape and Reel; Manufacturer: On Semiconductor; PartNumber: NTD4860NT4G; Channel Polarity: N Channel; Ciss Typ (pF): 1308; Coss Typ (pF): 342; Crss Typ (pF): 169; ID Max (A): 65; Qrr Typ (nC): 3.5; V(BR)DSS Min (V): 25; VGS Max (V): 20; VGS(th) Max (V): 2.5; DatasheetVersion: Rev. 1; PackageVersion: Rev. B, 06/2010; PackageReference: DPAK-3-369AA-01; PackageDescription: 3-Pin Flange Mount, Body 6.54 x 6.095 mm, Pitch 2.29 mm; Configuration: Single; Package Type: DPAK-3; Packing: Tape and Reel; RoHS: Pb-Free; Mounting Technology: Surface Mount; ComponentLink1Description: Manufacturer URL; ComponentLink1URL: http://www.onsemi.com/; ComponentLink2Description: Datasheet; ComponentLink2URL: http://www.onsemi.cn/pub_link/Collateral/NTD4860N.PDF; ComponentLink3Description: Package Specification; ComponentLink3URL: http://www.onsemi.cn/pub_link/Collateral/369AA.PDF
footprint ONSC-DPAK-3-369AA-01_V (DPAK, 3-Leads, Body 6.54x6.095mm, Pitch 2.29mm)
pins: 1 G, 3 S, 4 D

## NTD4863N-1G
designator Q?
Power MOSFET, 25 V, 49 A, Single N-Channel, 3-Pin IPAK, Pb-Free, Tube; Manufacturer: On Semiconductor; PartNumber: NTD4863N-1G; Channel Polarity: N Channel; Ciss Typ (pF): 990; Coss Typ (pF): 253; Crss Typ (pF): 144; ID Max (A): 49; Qrr Typ (nC): 2.7; V(BR)DSS Min (V): 25; VGS Max (V): 20; VGS(th) Max (V): 2.5; DatasheetVersion: Rev. 2; PackageVersion: Rev. C, 12/2010; PackageReference: IPAK-3-369D-01; PackageDescription: 3-Pin Flange Mount, Vertical Straight Lead, Body 6.54 x 2.285 mm, Pitch 2.29 mm; Configuration: Single; Package Type: DPAK-3; Packing: Tube; RoHS: Pb-Free; Mounting Technology: Through Hole; Code_JEDEC: TO-251; ComponentLink1Description: Manufacturer URL; ComponentLink1URL: http://www.onsemi.com/; ComponentLink2Description: Datasheet; ComponentLink2URL: http://www.onsemi.cn/pub_link/Collateral/NTD4863N-D.PDF; ComponentLink3Description: Package Specification; ComponentLink3URL: http://www.onsemi.cn/pub_link/Collateral/369D.PDF
footprint ONSC-IPAK-3-369D-01 (FM, 3-Leads, Body 6.75x2.4mm, Pitch 2.29mm)
pins: 1 G, 2 D, 3 S

## NTD4863N-35G
designator Q?
Power MOSFET, 25 V, 49 A, Single N-Channel, 3-Pin IPAK, Pb-Free, Tube; Manufacturer: On Semiconductor; PartNumber: NTD4863N-35G; Channel Polarity: N Channel; Ciss Typ (pF): 990; Coss Typ (pF): 253; Crss Typ (pF): 144; ID Max (A): 49; Qrr Typ (nC): 2.7; V(BR)DSS Min (V): 25; VGS Max (V): 20; VGS(th) Max (V): 2.5; DatasheetVersion: Rev. 2; PackageVersion: Rev. O, 02/2005; PackageReference: IPAK-3-369AC-01; PackageDescription: 3-Pin Flange Mount, Vertical Straight Lead, Body 6.54 x 2.285 mm, Pitch 2.29 mm; Configuration: Single; Package Type: DPAK-3; Packing: Tube; RoHS: Pb-Free; Mounting Technology: Through Hole; ComponentLink1Description: Manufacturer URL; ComponentLink1URL: http://www.onsemi.com/; ComponentLink2Description: Datasheet; ComponentLink2URL: http://www.onsemi.cn/pub_link/Collateral/NTD4863N-D.PDF; ComponentLink3Description: Package Specification; ComponentLink3URL: http://www.onsemi.cn/pub_link/Collateral/369AC.PDF
footprint ONSC-IPAK-3-369AC-01 (FM, 3-Leads, Body 6.75x2.4mm, Pitch 2.29mm)
pins: 1 G, 2 D, 3 S

## NTD4863NA-1G
designator Q?
Power MOSFET, 25 V, 49 A, Single N-Channel, 3-Pin IPAK, Pb-Free, Tube; Manufacturer: On Semiconductor; PartNumber: NTD4863NA-1G; Channel Polarity: N Channel; Ciss Typ (pF): 990; Coss Typ (pF): 253; Crss Typ (pF): 144; ID Max (A): 49; Qrr Typ (nC): 2.7; V(BR)DSS Min (V): 25; VGS Max (V): 20; VGS(th) Max (V): 2.5; DatasheetVersion: Rev. 2; PackageVersion: Rev. C, 12/2010; PackageReference: IPAK-3-369D-01; PackageDescription: 3-Pin Flange Mount, Vertical Straight Lead, Body 6.54 x 2.285 mm, Pitch 2.29 mm; Configuration: Single; Package Type: DPAK-3; Packing: Tube; RoHS: Pb-Free; Mounting Technology: Through Hole; Code_JEDEC: TO-251; ComponentLink1Description: Manufacturer URL; ComponentLink1URL: http://www.onsemi.com/; ComponentLink2Description: Datasheet; ComponentLink2URL: http://www.onsemi.cn/pub_link/Collateral/NTD4863N-D.PDF; ComponentLink3Description: Package Specification; ComponentLink3URL: http://www.onsemi.cn/pub_link/Collateral/369D.PDF
footprint ONSC-IPAK-3-369D-01 (FM, 3-Leads, Body 6.75x2.4mm, Pitch 2.29mm)
pins: 1 G, 2 D, 3 S

## NTD4863NA-35G
designator Q?
Power MOSFET, 25 V, 49 A, Single N-Channel, 3-Pin IPAK, Pb-Free, Tube; Manufacturer: On Semiconductor; PartNumber: NTD4863NA-35G; Channel Polarity: N Channel; Ciss Typ (pF): 990; Coss Typ (pF): 253; Crss Typ (pF): 144; ID Max (A): 49; Qrr Typ (nC): 2.7; V(BR)DSS Min (V): 25; VGS Max (V): 20; VGS(th) Max (V): 2.5; DatasheetVersion: Rev. 2; PackageVersion: Rev. O, 02/2005; PackageReference: IPAK-3-369AC-01; PackageDescription: 3-Pin Flange Mount, Vertical Straight Lead, Body 6.54 x 2.285 mm, Pitch 2.29 mm; Configuration: Single; Package Type: DPAK-3; Packing: Tube; RoHS: Pb-Free; Mounting Technology: Through Hole; ComponentLink1Description: Manufacturer URL; ComponentLink1URL: http://www.onsemi.com/; ComponentLink2Description: Datasheet; ComponentLink2URL: http://www.onsemi.cn/pub_link/Collateral/NTD4863N-D.PDF; ComponentLink3Description: Package Specification; ComponentLink3URL: http://www.onsemi.cn/pub_link/Collateral/369AC.PDF
footprint ONSC-IPAK-3-369AC-01 (FM, 3-Leads, Body 6.75x2.4mm, Pitch 2.29mm)
pins: 1 G, 2 D, 3 S

## NTD4863NAT4G
designator Q?
Power MOSFET, 25 V, 49 A, Single N-Channel, 3-Pin DPAK, Pb-Free, Tape and Reel; Manufacturer: On Semiconductor; PartNumber: NTD4863NAT4G; Channel Polarity: N Channel; Ciss Typ (pF): 990; Coss Typ (pF): 253; Crss Typ (pF): 144; ID Max (A): 49; Qrr Typ (nC): 2.7; V(BR)DSS Min (V): 25; VGS Max (V): 20; VGS(th) Max (V): 2.5; DatasheetVersion: Rev. 2; PackageVersion: Rev. B, 06/2010; PackageReference: DPAK-3-369AA-01; PackageDescription: 3-Pin Flange Mount, Body 6.54 x 6.095 mm, Pitch 2.29 mm; Configuration: Single; Package Type: DPAK-3; Packing: Tape and Reel; RoHS: Pb-Free; Mounting Technology: Surface Mount; ComponentLink1Description: Manufacturer URL; ComponentLink1URL: http://www.onsemi.com/; ComponentLink2Description: Datasheet; ComponentLink2URL: http://www.onsemi.cn/pub_link/Collateral/NTD4863N-D.PDF; ComponentLink3Description: Package Specification; ComponentLink3URL: http://www.onsemi.cn/pub_link/Collateral/369AA.PDF
footprint ONSC-DPAK-3-369AA-01_V (DPAK, 3-Leads, Body 6.54x6.095mm, Pitch 2.29mm)
pins: 1 G, 3 S, 4 D

## NTD4863NT4G
designator Q?
Power MOSFET, 25 V, 49 A, Single N-Channel, 3-Pin DPAK, Pb-Free, Tape and Reel; Manufacturer: On Semiconductor; PartNumber: NTD4863NT4G; Channel Polarity: N Channel; Ciss Typ (pF): 990; Coss Typ (pF): 253; Crss Typ (pF): 144; ID Max (A): 49; Qrr Typ (nC): 2.7; V(BR)DSS Min (V): 25; VGS Max (V): 20; VGS(th) Max (V): 2.5; DatasheetVersion: Rev. 2; PackageVersion: Rev. B, 06/2010; PackageReference: DPAK-3-369AA-01; PackageDescription: 3-Pin Flange Mount, Body 6.54 x 6.095 mm, Pitch 2.29 mm; Configuration: Single; Package Type: DPAK-3; Packing: Tape and Reel; RoHS: Pb-Free; Mounting Technology: Surface Mount; ComponentLink1Description: Manufacturer URL; ComponentLink1URL: http://www.onsemi.com/; ComponentLink2Description: Datasheet; ComponentLink2URL: http://www.onsemi.cn/pub_link/Collateral/NTD4863N-D.PDF; ComponentLink3Description: Package Specification; ComponentLink3URL: http://www.onsemi.cn/pub_link/Collateral/369AA.PDF
footprint ONSC-DPAK-3-369AA-01_V (DPAK, 3-Leads, Body 6.54x6.095mm, Pitch 2.29mm)
pins: 1 G, 3 S, 4 D

## NTD4863NT4H
designator Q?
Power MOSFET, 25 V, 49 A, Single N-Channel, 3-Pin DPAK, Pb-Free, Tape and Reel; Manufacturer: On Semiconductor; PartNumber: NTD4863NT4H; Channel Polarity: N Channel; Ciss Typ (pF): 990; Coss Typ (pF): 253; Crss Typ (pF): 144; ID Max (A): 49; Qrr Typ (nC): 2.7; V(BR)DSS Min (V): 25; VGS Max (V): 20; VGS(th) Max (V): 2.5; DatasheetVersion: Rev. 2; PackageVersion: Rev. B, 06/2010; PackageReference: DPAK-3-369AA-01; PackageDescription: 3-Pin Flange Mount, Body 6.54 x 6.095 mm, Pitch 2.29 mm; Configuration: Single; Package Type: DPAK-3; Packing: Tape and Reel; RoHS: Pb-Free; Mounting Technology: Surface Mount; ComponentLink1Description: Manufacturer URL; ComponentLink1URL: http://www.onsemi.com/; ComponentLink2Description: Datasheet; ComponentLink2URL: http://www.onsemi.cn/pub_link/Collateral/NTD4863N-D.PDF; ComponentLink3Description: Package Specification; ComponentLink3URL: http://www.onsemi.cn/pub_link/Collateral/369AA.PDF
footprint ONSC-DPAK-3-369AA-01_V (DPAK, 3-Leads, Body 6.54x6.095mm, Pitch 2.29mm)
pins: 1 G, 3 S, 4 D

## NTD4904N-1G
designator Q?
Power MOSFET, 30 V, 79 A, Single N-Channel, 3-Pin IPAK, Pb-Free, Tube; Manufacturer: On Semiconductor; PartNumber: NTD4904N-1G; Channel Polarity: N Channel; Ciss Typ (pF): 3052; Coss Typ (pF): 976; Crss Typ (pF): 23; ID Max (A): 79; Qrr Typ (nC): 35; V(BR)DSS Min (V): 30; VGS Max (V): 20; VGS(th) Max (V): 2.2; DatasheetVersion: Rev. 1; PackageVersion: Rev. C, 12/2010; PackageReference: IPAK-3-369D-01; PackageDescription: 3-Pin Flange Mount, Vertical Straight Lead, Body 6.54 x 2.285 mm, Pitch 2.29 mm; Configuration: Single; Package Type: IPAK-3; Packing: Tube; RoHS: Pb-Free; Mounting Technology: Through Hole; Code_JEDEC: TO-251; ComponentLink1Description: Manufacturer URL; ComponentLink1URL: http://www.onsemi.com/; ComponentLink2Description: Datasheet; ComponentLink2URL: http://www.onsemi.cn/pub_link/Collateral/NTD4904N-D.PDF; ComponentLink3Description: Package Specification; ComponentLink3URL: http://www.onsemi.cn/pub_link/Collateral/369D.PDF
footprint ONSC-IPAK-3-369D-01 (FM, 3-Leads, Body 6.75x2.4mm, Pitch 2.29mm)
pins: 1 G, 2 D, 3 S

## NTD4904N-35G
designator Q?
Power MOSFET, 30 V, 79 A, Single N-Channel, 3-Pin IPAK, Pb-Free, Tube; Manufacturer: On Semiconductor; PartNumber: NTD4904N-35G; Channel Polarity: N Channel; Ciss Typ (pF): 3052; Coss Typ (pF): 976; Crss Typ (pF): 23; ID Max (A): 79; Qrr Typ (nC): 35; V(BR)DSS Min (V): 30; VGS Max (V): 20; VGS(th) Max (V): 2.2; DatasheetVersion: Rev. 1; PackageVersion: Rev. B, 04/2013; PackageReference: IPAK-3-369AD; PackageDescription: 3-Pin Flange Mount, Vertical Straight Lead, Body 6.54 x 2.285 mm, Pitch 2.28 mm; Configuration: Single; Package Type: IPAK-3; Packing: Tube; RoHS: Pb-Free; Mounting Technology: Through Hole; ComponentLink1Description: Manufacturer URL; ComponentLink1URL: http://www.onsemi.com/; ComponentLink2Description: Datasheet; ComponentLink2URL: http://www.onsemi.cn/pub_link/Collateral/NTD4904N-D.PDF; ComponentLink3Description: Package Specification; ComponentLink3URL: http://www.onsemi.cn/pub_link/Collateral/369AD.PDF
footprint ONSC-IPAK-3-369AD (FM, 3-Leads, Body 6.75x2.4mm, Pitch 2.28mm)
pins: 1 G, 2 D, 3 S

## NTD4904NT4G
designator Q?
Power MOSFET, 30 V, 79 A, Single N-Channel, 3-Pin DPAK, Pb-Free, Tape and Reel; Manufacturer: On Semiconductor; PartNumber: NTD4904NT4G; Channel Polarity: N Channel; Ciss Typ (pF): 3052; Coss Typ (pF): 976; Crss Typ (pF): 23; ID Max (A): 79; Qrr Typ (nC): 35; V(BR)DSS Min (V): 30; VGS Max (V): 20; VGS(th) Max (V): 2.2; DatasheetVersion: Rev. 1; PackageVersion: Rev. B, 06/2010; PackageReference: DPAK-3-369AA-01; PackageDescription: 3-Pin Flange Mount, Body 6.54 x 6.095 mm, Pitch 2.29 mm; Configuration: Single; Package Type: DPAK-3; Packing: Tape and Reel; RoHS: Pb-Free; Mounting Technology: Surface Mount; ComponentLink1Description: Manufacturer URL; ComponentLink1URL: http://www.onsemi.com/; ComponentLink2Description: Datasheet; ComponentLink2URL: http://www.onsemi.cn/pub_link/Collateral/NTD4904N-D.PDF; ComponentLink3Description: Package Specification; ComponentLink3URL: http://www.onsemi.cn/pub_link/Collateral/369AA.PDF
footprint ONSC-DPAK-3-369AA-01_V (DPAK, 3-Leads, Body 6.54x6.095mm, Pitch 2.29mm)
pins: 1 G, 3 S, 4 D

## NTD4906N-1G
designator Q?
Power MOSFET, 30 V, 54 A, Single N-Channel, 3-Pin IPAK, Pb-Free, Tube; Manufacturer: On Semiconductor; PartNumber: NTD4906N-1G; Channel Polarity: N Channel; Ciss Typ (pF): 1932; Coss Typ (pF): 642; Crss Typ (pF): 19; ID Max (A): 54; Qrr Typ (nC): 25; V(BR)DSS Min (V): 30; VGS Max (V): 20; VGS(th) Max (V): 2.2; DatasheetVersion: Rev. 5; PackageVersion: Rev. C, 12/2010; PackageReference: IPAK-3-369D-01; PackageDescription: 3-Pin Flange Mount, Vertical Straight Lead, Body 6.54 x 2.285 mm, Pitch 2.29 mm; Configuration: Single; Package Type: DPAK-3, IPAK-3; Packing: Tube; RoHS: Pb-Free; Mounting Technology: Through Hole; Code_JEDEC: TO-251; ComponentLink1Description: Manufacturer URL; ComponentLink1URL: http://www.onsemi.com/; ComponentLink2Description: Datasheet; ComponentLink2URL: http://www.onsemi.cn/pub_link/Collateral/NTD4906N-D.PDF; ComponentLink3Description: Package Specification; ComponentLink3URL: http://www.onsemi.cn/pub_link/Collateral/369D.PDF
footprint ONSC-IPAK-3-369D-01 (FM, 3-Leads, Body 6.75x2.4mm, Pitch 2.29mm)
pins: 1 G, 2 D, 3 S

## NTD4906N-1H
designator Q?
Power MOSFET, 30 V, 54 A, Single N-Channel, 3-Pin IPAK, Pb-Free, Tube; Manufacturer: On Semiconductor; PartNumber: NTD4906N-1H; Channel Polarity: N Channel; Ciss Typ (pF): 1932; Coss Typ (pF): 642; Crss Typ (pF): 19; ID Max (A): 54; Qrr Typ (nC): 25; V(BR)DSS Min (V): 30; VGS Max (V): 20; VGS(th) Max (V): 2.2; DatasheetVersion: Rev. 5; PackageVersion: Rev. C, 12/2010; PackageReference: IPAK-3-369D-01; PackageDescription: 3-Pin Flange Mount, Vertical Straight Lead, Body 6.54 x 2.285 mm, Pitch 2.29 mm; Configuration: Single; Package Type: DPAK-3, IPAK-3; Packing: Tube; RoHS: Pb-Free; Mounting Technology: Through Hole; Code_JEDEC: TO-251; ComponentLink1Description: Manufacturer URL; ComponentLink1URL: http://www.onsemi.com/; ComponentLink2Description: Datasheet; ComponentLink2URL: http://www.onsemi.cn/pub_link/Collateral/NTD4906N-D.PDF; ComponentLink3Description: Package Specification; ComponentLink3URL: http://www.onsemi.cn/pub_link/Collateral/369D.PDF
footprint ONSC-IPAK-3-369D-01 (FM, 3-Leads, Body 6.75x2.4mm, Pitch 2.29mm)
pins: 1 G, 2 D, 3 S

## NTD4906N-35G
designator Q?
Power MOSFET, 30 V, 54 A, Single N-Channel, 3-Pin IPAK, Pb-Free, Tube; Manufacturer: On Semiconductor; PartNumber: NTD4906N-35G; Channel Polarity: N Channel; Ciss Typ (pF): 1932; Coss Typ (pF): 642; Crss Typ (pF): 19; ID Max (A): 54; Qrr Typ (nC): 25; V(BR)DSS Min (V): 30; VGS Max (V): 20; VGS(th) Max (V): 2.2; DatasheetVersion: Rev. 5; PackageVersion: Rev. B, 04/2013; PackageReference: IPAK-3-369AD; PackageDescription: 3-Pin Flange Mount, Vertical Straight Lead, Body 6.54 x 2.285 mm, Pitch 2.28 mm; Configuration: Single; Package Type: DPAK-3, IPAK-3; Packing: Tube; RoHS: Pb-Free; Mounting Technology: Through Hole; ComponentLink1Description: Manufacturer URL; ComponentLink1URL: http://www.onsemi.com/; ComponentLink2Description: Datasheet; ComponentLink2URL: http://www.onsemi.cn/pub_link/Collateral/NTD4906N-D.PDF; ComponentLink3Description: Package Specification; ComponentLink3URL: http://www.onsemi.cn/pub_link/Collateral/369AD.PDF
footprint ONSC-IPAK-3-369AD (FM, 3-Leads, Body 6.75x2.4mm, Pitch 2.28mm)
pins: 1 G, 2 D, 3 S

## NTD4906N-35H
designator Q?
Power MOSFET, 30 V, 54 A, Single N-Channel, 3-Pin IPAK, Pb-Free, Tube; Manufacturer: On Semiconductor; PartNumber: NTD4906N-35H; Channel Polarity: N Channel; Ciss Typ (pF): 1932; Coss Typ (pF): 642; Crss Typ (pF): 19; ID Max (A): 54; Qrr Typ (nC): 25; V(BR)DSS Min (V): 30; VGS Max (V): 20; VGS(th) Max (V): 2.2; DatasheetVersion: Rev. 5; PackageVersion: Rev. B, 04/2013; PackageReference: IPAK-3-369AD; PackageDescription: 3-Pin Flange Mount, Vertical Straight Lead, Body 6.54 x 2.285 mm, Pitch 2.28 mm; Configuration: Single; Package Type: DPAK-3, IPAK-3; Packing: Tube; RoHS: Pb-Free; Mounting Technology: Through Hole; ComponentLink1Description: Manufacturer URL; ComponentLink1URL: http://www.onsemi.com/; ComponentLink2Description: Datasheet; ComponentLink2URL: http://www.onsemi.cn/pub_link/Collateral/NTD4906N-D.PDF; ComponentLink3Description: Package Specification; ComponentLink3URL: http://www.onsemi.cn/pub_link/Collateral/369AD.PDF
footprint ONSC-IPAK-3-369AD (FM, 3-Leads, Body 6.75x2.4mm, Pitch 2.28mm)
pins: 1 G, 2 D, 3 S

## NTD4906NT4G
designator Q?
Power MOSFET, 30 V, 54 A, Single N-Channel, 3-Pin DPAK, Pb-Free, Tape and Reel; Manufacturer: On Semiconductor; PartNumber: NTD4906NT4G; Channel Polarity: N Channel; Ciss Typ (pF): 1932; Coss Typ (pF): 642; Crss Typ (pF): 19; ID Max (A): 54; Qrr Typ (nC): 25; V(BR)DSS Min (V): 30; VGS Max (V): 20; VGS(th) Max (V): 2.2; DatasheetVersion: Rev. 5; PackageVersion: Rev. B, 06/2010; PackageReference: DPAK-3-369AA-01; PackageDescription: 3-Pin Flange Mount, Body 6.54 x 6.095 mm, Pitch 2.29 mm; Configuration: Single; Package Type: DPAK-3, IPAK-3; Packing: Tape and Reel; RoHS: Pb-Free; Mounting Technology: Surface Mount; ComponentLink1Description: Manufacturer URL; ComponentLink1URL: http://www.onsemi.com/; ComponentLink2Description: Datasheet; ComponentLink2URL: http://www.onsemi.cn/pub_link/Collateral/NTD4906N-D.PDF; ComponentLink3Description: Package Specification; ComponentLink3URL: http://www.onsemi.cn/pub_link/Collateral/369AA.PDF
footprint ONSC-DPAK-3-369AA-01_V (DPAK, 3-Leads, Body 6.54x6.095mm, Pitch 2.29mm)
pins: 1 G, 3 S, 4 D

## NTD4906NT4H
designator Q?
Power MOSFET, 30 V, 54 A, Single N-Channel, 3-Pin DPAK, Pb-Free, Tape and Reel; Manufacturer: On Semiconductor; PartNumber: NTD4906NT4H; Channel Polarity: N Channel; Ciss Typ (pF): 1932; Coss Typ (pF): 642; Crss Typ (pF): 19; ID Max (A): 54; Qrr Typ (nC): 25; V(BR)DSS Min (V): 30; VGS Max (V): 20; VGS(th) Max (V): 2.2; DatasheetVersion: Rev. 5; PackageVersion: Rev. B, 06/2010; PackageReference: DPAK-3-369AA-01; PackageDescription: 3-Pin Flange Mount, Body 6.54 x 6.095 mm, Pitch 2.29 mm; Configuration: Single; Package Type: DPAK-3, IPAK-3; Packing: Tape and Reel; RoHS: Pb-Free; Mounting Technology: Surface Mount; ComponentLink1Description: Manufacturer URL; ComponentLink1URL: http://www.onsemi.com/; ComponentLink2Description: Datasheet; ComponentLink2URL: http://www.onsemi.cn/pub_link/Collateral/NTD4906N-D.PDF; ComponentLink3Description: Package Specification; ComponentLink3URL: http://www.onsemi.cn/pub_link/Collateral/369AA.PDF
footprint ONSC-DPAK-3-369AA-01_V (DPAK, 3-Leads, Body 6.54x6.095mm, Pitch 2.29mm)
pins: 1 G, 3 S, 4 D